# Altium schematic symbol library IOBoard_Low.SCHLIB: 201 symbols
Pins are listed as number, name and electrical type; pins without a type are passive.

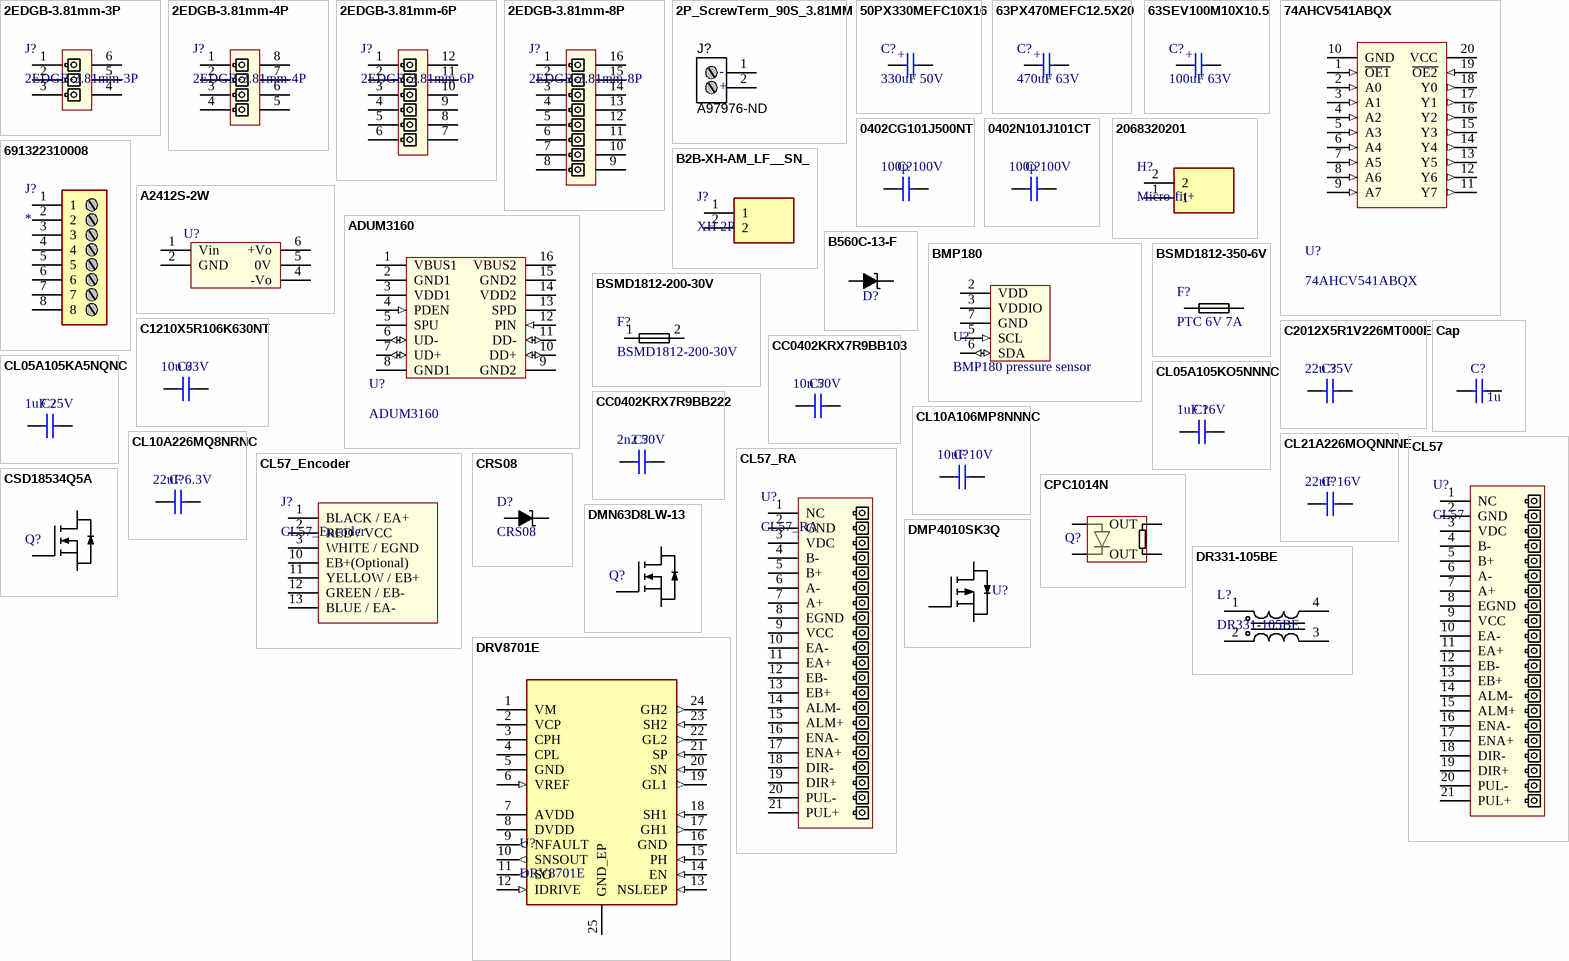
[diagram p0: symbols 2EDGB-3.81mm-3P to DRV8701E]

## 2EDGB-3.81mm-3P
designator J?
3.81mm inverted header, 3 position, Straight
footprint 2EDGB-3.81mm-3P
pins: 1, 2, 3, 4, 5, 6

## 2EDGB-3.81mm-4P
designator J?
3.81mm inverted header, 4 position, Straight
footprint 2EDGB-3.81mm-4P
pins: 1, 2, 3, 4, 5, 6, 7, 8

## 2EDGB-3.81mm-6P
designator J?
3.81mm inverted header, 6 position, Straight
footprint 2EDGB-3.81mm-6P
pins: 1, 2, 3, 4, 5, 6, 7, 8, 9, 10, 11, 12

## 2EDGB-3.81mm-8P
designator J?
3.81mm inverted header, 8 position, Straight
footprint 2EDGB-3.81mm-8P
pins: 1, 2, 3, 4, 5, 6, 7, 8, 9, 10, 11, 12, 13, 14, 15, 16

## 2P_ScrewTerm_90S_3.81MM
designator J?, comment Supplier Part Number 1: A97976-ND  (hidden comment: Stackable ScrewTerm)
Terminal Block Screw Type THT 2-Position 3.81mm pitch; Manufacturer 1: Tyco Electronics; Manufacturer Part Number 1: 1776113-2; Value: 2 position; Pitch: 0.150" (3.81mm); Positions Per Level: 2; SCDType: undef; Package / Case: Side Entry; 3.81mm pitch; Category: Connectors Interconnects; Color: Black; Supplier 1: Digi-Key
footprint 2P_PCB_ScrewTerm_90S_3.81MM (TERM BLOCK 2POS SIDE ENT STACKABLE 3.81MM)
footprint 2P_PCB_TERM (used in m2)
pins: 1, 2
text: -; +

## 50PX330MEFC10X16
designator C?, comment 330uF 50V
CAP ELEC 10x16 330uF 50V 2k@105C; Value: 330u; Price per 100 unit (LCSC): US$0.1075
footprint CAPE10.0MM_Rad_10x14mm (10mm Pitch Radial Capacitor 10x14mm DxH)
pins: 1, 2
text: +

## 63PX470MEFC12.5X20
designator C?, comment 470uF 63V
CAP ELEC 12.5x20 470uF 63V 2k@105C; Value: 470u; Price per 100 unit (LCSC): US$0.1075
footprint CAPPRD500W65D1250H2200 (CAPE 12.5 x 20mm)
pins: 1, 2
text: +

## 63SEV100M10X10.5
designator C?, comment 100uF 63V
CAP ELEC 10x10.5 100uF 63V 2k@105C; Value: 100u; Price per 100 unit (LCSC): US$0.1075
footprint CAP_ELEC_SIZE_G (Capacitor, polarized, aluminum can; 10.0x10.2mm DxH)
pins: 1, 2
text: +

## 74AHCV541ABQX
designator U?
Octal buffer/line driver; 3-state; Source: https://www.mouser.hk/ProductDetail/Nexperia/74AHCV244APWJ?qs=sGAEpiMZZMuiiWkaIwCK2bgmxBV%2FR64eEE4cbZSq%2Ff0=; ComponentLink1Description: purchase; ComponentLink1URL: https://www.mouser.hk/ProductDetail/Nexperia/74AHCV244APWJ?qs=sGAEpiMZZMuiiWkaIwCK2bgmxBV%2FR64eEE4cbZSq%2Ff0=
footprint TSSOP20_4.4mm
pins: 1 ~{OE1} (in), 2 A0 (in), 3 A1 (in), 4 A2 (in), 5 A3 (in), 6 A4 (in), 7 A5 (in), 8 A6 (in), 9 A7 (in), 10 GND (power), 11 Y7 (out), 12 Y6 (out), 13 Y5 (out), 14 Y4 (out), 15 Y3 (out), 16 Y2 (out), 17 Y1 (out), 18 Y0 (out), 19 ~{OE2} (in), 20 VCC (power)

## 0402CG101J500NT
designator C?, comment 100p 100V
CAP CER 0402 100pF 100V C0G 5%; Price per 100 unit (LCSC): US$0.0038; Value: 100p
simulation model CAP (Capacitor)
signal-integrity model Cap
footprint CAPC1005X55N (Chip Capacitor, Body 1.0x0.5mm, EIA 0402, IPC Medium Density)
pins: 1, 2

## 0402N101J101CT
designator C?, comment 100p 100V
CAP CER 0402 100pF 100V C0G 5%; Price per 100 unit (LCSC): US$0.0038; Value: 100p
simulation model CAP (Capacitor)
signal-integrity model Cap
footprint CAPC1005X55N (Chip Capacitor, Body 1.0x0.5mm, EIA 0402, IPC Medium Density)
pins: 1, 2

## 2068320201
designator H?, comment Micro-fit+
Molex micro fit+ 2 pin configuration
pins: 1, 2

## 691322310008
designator J?
Connector; Manufacturer_Name: Wurth Elektronik; Manufacturer_Part_Number: 691322310008; Datasheet Link: https://www.mouser.cn/datasheet/2/445/691322310008-1719709.pdf; Height: 7mm; Mouser Part Number: 710-691322310008; Mouser Price/Stock: https://www.mouser.co.uk/ProductDetail/Wurth-Elektronik/691322310008/?qs=2kOmHSv6VfQgPLFTK4orkA%3D%3D
footprint SHDRRA8W80P0X381_1X8_3167X920X700P
pins: 1, 2, 3, 4, 5, 6, 7, 8

## A2412S-2W
designator U?  (value not drawn)
+/- 12V output, max power 2W and 100uF for output. 1.5kV isolation. acoupling cap 20oF; ComponentLink1Description: taobao; ComponentLink1URL: https://detail.tmall.com/item.htm?spm=a230r.1.14.16.54a42126Tbq0Y1&id=606375734809&ns=1&abbucket=18&skuId=4246605892175
footprint A2412S-2W
pins: 1 Vin (power), 2 GND (power), 4 -Vo (power), 5 0V (power), 6 +Vo (power)

## ADUM3160
designator U?
2.5kV USB isolator
footprint SOIC_W_16
pins: 1 VBUS1 (power), 2 GND1 (power), 3 VDD1 (power), 4 PDEN (in), 5 SPU, 6 UD- (io), 7 UD+  (io), 8 GND1 (power), 9 GND2 (power), 10 DD+ (io), 11 DD- (io), 12 PIN (in), 13 SPD (power), 14 VDD2 (power), 15 GND2 (power), 16 VBUS2 (power)

## B2B-XH-AM_LF__SN_
designator J?, comment XH 2P
JST XH 2-pin; Manufacturer_Name: JST (JAPAN SOLDERLESS TERMINALS); Manufacturer_Part_Number: B2B-XH-AM(LF)(SN); Datasheet Link: https://www.jst-mfg.com/product/pdf/eng/eXH.pdf; Height: 7mm; Arrow Part Number: B2B-XH-AM(LF)(SN); Arrow Price/Stock: https://www.arrow.com/en/products/b2b-xh-am-lf-sn/jst-manufacturing?region=europe
footprint B2BXHAMLFSN
pins: 1, 2

## B560C-13-F
designator D?  (value not drawn)
5.0A SURFACE MOUNT SCHOTTKY BARRIER RECTIFIER; Manufacturer: Diodes incoporated; Vrrm: 60V; If: 5A(MAX); Vf: 0.7V
footprint DO-214AB (JEDEC DO214 variation AB. SMC)
pins: A Anode, K Cathode

## BMP180
designator U?, comment BMP180 pressure sensor
VDD: 1.8-3.6V; VDDIO: 1.65-3.6V
footprint BMP180
pins: 2 VDD (power), 3 VDDIO (power), 5 SCL (in), 6 SDA (io), 7 GND (power)

## BSMD1812-200-30V
designator F?
FUSE 1812 2A HOLD 4A TRIP 30V
footprint RESC5025X70N (Chip Resistor, Body 5.0x2.5mm, 2010, IPC Medium Density)
pins: 1, 2

## BSMD1812-350-6V
designator F?, comment PTC 6V 7A
FUSE 6V 7A 1812 PTC Resettable Fuses
footprint FUSE_1812 (SMD Fuse 4.5x3.2mm, 1812)
pins: 1, 2

## C1210X5R106K630NT
designator C?, comment 10u 63V
CAP CER 1210 10uF 63V X5R 20%; Price per 100 unit (LCSC): US$0.0662; Value: 10u
simulation model CAP (Capacitor)
signal-integrity model Cap
footprint CAPC3225X220N (Chip Capacitor, Body 3.2x2.5mm, EIA 1210, IPC Medium Density)
pins: 1, 2

## C2012X5R1V226MT000E
designator C?, comment 22u 35V
CAP CER 0805 22uF 35V X5R 20%; Price per 100 unit (LCSC): US$0.1732; Value: 22u
simulation model CAP (Capacitor)
signal-integrity model Cap
footprint CAPC2012X135N
pins: 1, 2

## Cap
designator C?  value 1u  (hidden comment: Cap)
Capacitor; Published: 8-Jun-2000; LatestRevisionDate: 17-Jul-2002; LatestRevisionNote: Re-released for DXP Platform.; PackageReference: RAD-0.3; Publisher: Altium Limited; PackageDescription: Radial Cap, Thru-Hole; 2 Leads; 0.3 in Pin Spacing
footprint RAD-0.3 (Radial Cap, Thru-Hole; 2 Leads; 0.3 in Pin Spacing)
simulation model CAP (Capacitor)
signal-integrity model Cap
footprint CAPC2012X135N (Chip Capacitor, Body 2.0x1.2mm, EIA 0805, IPC Medium Density)
footprint CAPC1608X90N (Chip Capacitor, Body 1.6x0.8mm, EIA 0603, IPC Medium Density)
pins: 1, 2

## CC0402KRX7R9BB103
designator C?, comment 10n 50V
CAP CER 0402 10nF 50V X7R 10%; Price per 100 unit (LCSC): US$0.0012; Value: 10n
simulation model CAP (Capacitor)
signal-integrity model Cap
footprint CAPC1005X55N (Chip Capacitor, Body 1.0x0.5mm, EIA 0402, IPC Medium Density)
pins: 1, 2

## CC0402KRX7R9BB222
designator C?, comment 2n2 50V
CAP CER 0402 2.2nF 50V X7R 10%; Price per 100 unit (LCSC): US$0.0012; Value: 2n2
simulation model CAP (Capacitor)
signal-integrity model Cap
footprint CAPC1005X55N (Chip Capacitor, Body 1.0x0.5mm, EIA 0402, IPC Medium Density)
pins: 1, 2

## CL05A105KA5NQNC
designator C?, comment 1uF 25V
CAP CER 0402 1uF 25V X5R 10%; Value: 1u; Price per 100 unit (LCSC): US$0.0108
simulation model CAP (Capacitor)
signal-integrity model Cap
footprint CAPC1005X55N (Chip Capacitor, Body 1.0x0.5mm, EIA 0402, IPC Medium Density)
pins: 1, 2

## CL05A105KO5NNNC
designator C?, comment 1uF 16V
CAP CER 0402 1uF 16V X5R 10%; Value: 1u; Price per 100 unit (LCSC): US$0.0108
simulation model CAP (Capacitor)
signal-integrity model Cap
footprint CAPC1005X55N (Chip Capacitor, Body 1.0x0.5mm, EIA 0402, IPC Medium Density)
pins: 1, 2

## CL10A106MP8NNNC
designator C?, comment 10uF 10V
CAP CER 0603 10uF 10V X5R 20%; Value: 10u; Price per 100 unit (LCSC): US$0.0108
simulation model CAP (Capacitor)
signal-integrity model Cap
footprint CAPC1608X90N (Chip Capacitor, Body 1.6x0.8mm, EIA 0603, IPC Medium Density)
pins: 1, 2

## CL10A226MQ8NRNC
designator C?, comment 22uF 6.3V
CAP CER 0603 22uF 6.3V X5R 10%; Value: 22u; Price per 100 unit (LCSC): US$0.0108
simulation model CAP (Capacitor)
signal-integrity model Cap
footprint CAPC1608X90N (Chip Capacitor, Body 1.6x0.8mm, EIA 0603, IPC Medium Density)
pins: 1, 2

## CL21A226MOQNNNE
designator C?, comment 22uF 16V
CAP CER 0603 22uF 16V X5R 10%; Value: 22u; Price per 100 unit (LCSC): US$0.0108
simulation model CAP (Capacitor)
signal-integrity model Cap
footprint CAPC1608X90N (Chip Capacitor, Body 1.6x0.8mm, EIA 0603, IPC Medium Density)
pins: 1, 2

## CL57
designator U?
CL57 Stepper Module, 24-48V, 8A output
footprint CL57_Stepper
pins: 1 NC, 2 GND, 3 VDC, 4 B-, 5 B+, 6 A-, 7 A+, 8 EGND, 9 VCC, 10 EA-, 11 EA+, 12 EB-, 13 EB+, 14 ALM-, 15 ALM+, 16 ENA-, 17 ENA+, 18 DIR-, 19 DIR+, 20 PUL-, 21 PUL+

## CL57_Encoder
designator J?
Encoder header for CL57 steppers
footprint DE15 (DE15 connector)
pins: 1 BLACK / EA+, 2 RED / VCC, 3 WHITE / EGND, 10 EB+(Optional), 11 YELLOW / EB+, 12 GREEN / EB-, 13 BLUE / EA-

## CL57_RA
designator U?
CL57 Stepper Module, 24-48V, 8A output
footprint CL57_Stepper_RA
pins: 1 NC, 2 GND, 3 VDC, 4 B-, 5 B+, 6 A-, 7 A+, 8 EGND, 9 VCC, 10 EA-, 11 EA+, 12 EB-, 13 EB+, 14 ALM-, 15 ALM+, 16 ENA-, 17 ENA+, 18 DIR-, 19 DIR+, 20 PUL-, 21 PUL+

## CPC1014N
designator Q?, comment Solid state relay  (value not drawn)
ComponentLink1Description: Taobao; ComponentLink1URL: https://detail.tmall.com/item.htm?spm=a230r.1.14.1.5c106cc5WxdCik&id=611164965496&ns=1&abbucket=18; ComponentLink2Description: Mouser; ComponentLink2URL: https://hkcn.rs-online.com/web/p/solid-state-relays/9061013/
footprint SO4
pins: 1 + (power), 2 + (power), 3 OUT (power), 4 OUT (power)

## CRS08
designator D?
1.5A SURFACE MOUNT SCHOTTKY BARRIER RECTIFIER; Voltage: 40V; Current: 2A
footprint SOD123 (SOD-123; 2 Leads; Body 2.7 x 1.6 mm, (LxW))
pins: A Anode, K Cathode

## CSD18534Q5A
designator Q?, comment 60V N-Channel MOSFET  (value not drawn)
60V N-Channel NexFET Power MOSFET. 14A minimum depending on temperature
footprint SON_5x6_NexFET
pins: 1 G, 3 S, 4 D

## DMN63D8LW-13
designator Q?, comment Enhancing mode mosfet  (value not drawn)
Small N channel MOSFET as a level shifter.; Rds @ Vgs = 2.5V 250mA: 13R; Rds @ Vgs = 5V 250mA: 2.5R; Vds max: 30V; Vgs max: 20V; Id: 300mA
footprint SOT323 (Small outline 2.1mm L x 1.25mm W x 1.1mm H; 3 lead SC70, EIAJ SC-70, SOT323)
pins: 1 G, 2 S, 3 D

## DMP4010SK3Q
designator U?  (value not drawn)
P channel mosfet
footprint TO-252 (D-PAK/TO-252-AA; 3 Leads (1 Cropped); Body 10.3 (inc. leads) x 6.7 mm (LxW max))
pins: 1 G, 3 S, 4 D

## DR331-105BE
designator L?
Common mode choke 1mH 0.5A
footprint DR331-105BE (Footprint for common mode choke DR331-105BE)
pins: 1 VOUT+ (power), 2 VOUT+ (power), 3 VOUT+ (power), 4 VOUT+ (power)

## DRV8701E
designator U?
6V to 45V operating range, PH/EN control interface
footprint VQFN24 (VQFN package with 24 pins)
pins: 1 VM (power), 2 VCP (power), 3 CPH (power), 4 CPL (power), 5 GND (power), 6 VREF (in), 7 AVDD (power), 8 DVDD (power), 9 NFAULT (out), 10 SNSOUT (out), 11 SO (out), 12 IDRIVE (in), 13 NSLEEP (in), 14 EN (in), 15 PH (in), 16 GND (power), 17 GH1 (out), 18 SH1 (in), 19 GL1 (out), 20 SN (in), 21 SP (in), 22 GL2 (out), 23 SH2 (in), 24 GH2 (out), 25 GND_EP (power)

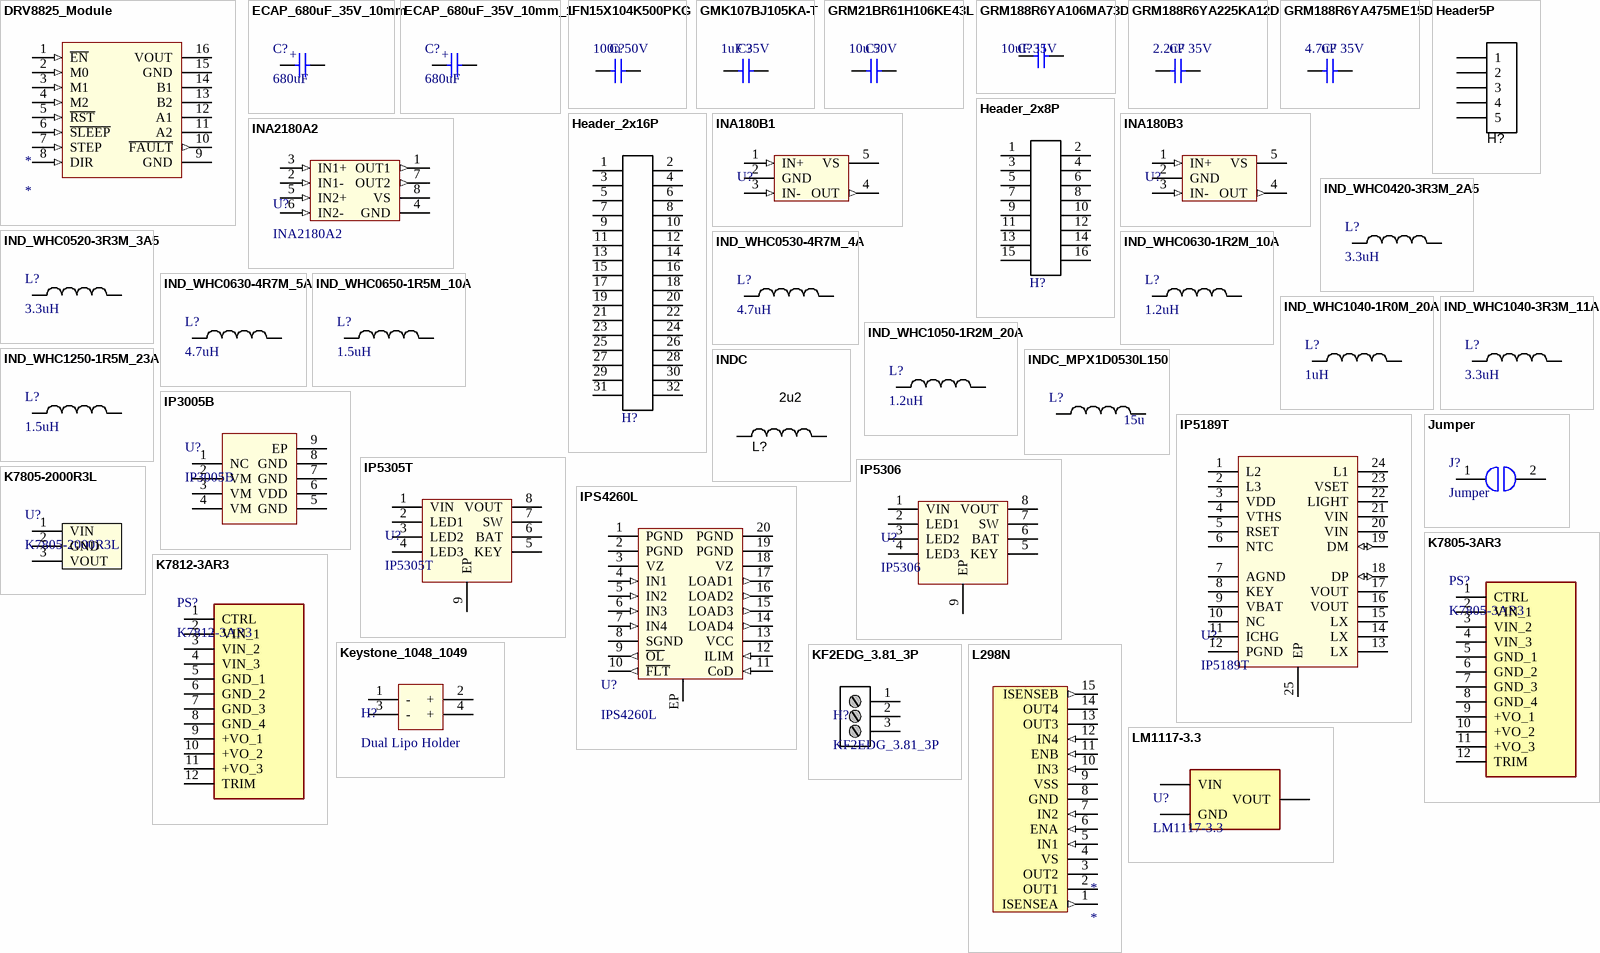
[diagram p1: symbols DRV8825_Module to LM1117-3.3]

## DRV8825_Module
designator *
footprint DRV8825_module
pins: 1 ~{EN} (in), 2 M0 (in), 3 M1 (in), 4 M2 (in), 5 ~{RST} (in), 6 ~{SLEEP} (in), 7 STEP (in), 8 DIR (in), 9 GND (power), 10 ~{FAULT} (out), 11 A2 (power), 12 A1 (power), 13 B2 (power), 14 B1 (power), 15 GND (power), 16 VOUT (power)

## ECAP_680uF_35V_10mm
designator C?, comment 680uF
electrolytic capacitor 680uF 35V, 10mm in diameter
footprint CAPE10.0MM_Rad_10x14mm (10mm Pitch Radial Capacitor 10x14mm DxH)
pins: 1, 2
text: +

## ECAP_680uF_35V_10mm_1
designator C?, comment 680uF
electrolytic capacitor 680uF 35V, 10mm in diameter
footprint CAPE10.0MM_Rad_10x14mm (10mm Pitch Radial Capacitor 10x14mm DxH)
pins: 1, 2
text: +

## FN15X104K500PKG
designator C?, comment 100n 50V
CAP CER 0402 100nF 50V X7R 10%; Price per 100 unit (LCSC): US$0.0032; Value: 100n
simulation model CAP (Capacitor)
signal-integrity model Cap
footprint CAPC1005X55N (Chip Capacitor, Body 1.0x0.5mm, EIA 0402, IPC Medium Density)
pins: 1, 2

## GMK107BJ105KA-T
designator C?, comment 1uF 35V
CAP CER 0603 1uF 35V X5R 10%; Value: 1u; Price per 100 unit (LCSC): US$0.0108
simulation model CAP (Capacitor)
signal-integrity model Cap
footprint CAPC1608X90N (Chip Capacitor, Body 1.6x0.8mm, EIA 0603, IPC Medium Density)
pins: 1, 2

## GRM21BR61H106KE43L
designator C?, comment 10u 50V
CAP CER 0805 10uF 50V X5R 10%; Price per 100 unit (LCSC): US$0.0892; Value: 10u
simulation model CAP (Capacitor)
signal-integrity model Cap
footprint CAPC2012X135N
pins: 1, 2

## GRM188R6YA106MA73D
designator C?, comment 10uF 35V
CAP CER 0603 10uF 35V X5R 20%; Value: 10u; Price per 100 unit (LCSC): US$0.0589
simulation model CAP (Capacitor)
signal-integrity model Cap
footprint CAPC1608X90N (Chip Capacitor, Body 1.6x0.8mm, EIA 0603, IPC Medium Density)
pins: 1, 2

## GRM188R6YA225KA12D
designator C?, comment 2.2uF 35V
CAP CER 0603 2.2uF 35V X5R 10%; Value: 2.2u; Price per 100 unit (LCSC): US$0.0295
simulation model CAP (Capacitor)
signal-integrity model Cap
footprint CAPC1608X90N (Chip Capacitor, Body 1.6x0.8mm, EIA 0603, IPC Medium Density)
pins: 1, 2

## GRM188R6YA475ME15D
designator C?, comment 4.7uF 35V
CAP CER 0603 4.7uF 35V X5R 20%; Value: 4.7u; Price per 100 unit (LCSC): US$0.0589
simulation model CAP (Capacitor)
signal-integrity model Cap
footprint CAPC1608X90N (Chip Capacitor, Body 1.6x0.8mm, EIA 0603, IPC Medium Density)
pins: 1, 2

## Header5P
designator H?, comment Programmer  (value not drawn)  (no BOM)
Header 5-pin
footprint HDR1X5_1.27MMP (Connector; Header; 5 Position, 0.050" pitch)
footprint HDR1X5_2.54MMP (Connector; Header; 5 Position 0.100" pitch)
footprint HDR1X5_1.27MMP_MIN (Programming connector target; 5 Position with minimally sized pads, 0.050" pitch)
footprint HDR1X5_2.54mmp (Connector; Header; 5 Position 0.100" pitch)
footprint HDR_1X5_2.54MM_RA (5 position right angled 2.54 pitch)
pins: 1, 2, 3, 4, 5

## Header_2x8P
designator H?, comment Header  (value not drawn)
Header, 2x8-pin
footprint 2x8P_HEADER_FLIP (2 x 8 pins header lol)
footprint 2x8P_HEADER (2 x 8 pins header lol)
pins: 1, 2, 3, 4, 5, 6, 7, 8, 9, 10, 11, 12, 13, 14, 15, 16

## Header_2x16P
designator H?, comment Header  (value not drawn)
Header, 2x16-Pin
footprint 2X16_HEADER_FLIP
footprint 2X16_HEADER
pins: 1, 2, 3, 4, 5, 6, 7, 8, 9, 10, 11, 12, 13, 14, 15, 16, 17, 18, 19, 20, 21, 22, 23, 24, 25, 26, 27, 28, 29, 30, 31, 32

## INA180B1
designator U?, comment current sensr  (value not drawn)
Single channel current amplifier with 20V/V gain
footprint SOT23-5
pins: 1 IN+ (in), 2 GND (power), 3 IN- (in), 4 OUT (out), 5 VS (power)

## INA180B3
designator U?, comment current sensr  (value not drawn)
Single channel current amplifier with 100V/V gain
footprint SOT23-5
pins: 1 IN+ (in), 2 GND (power), 3 IN- (in), 4 OUT (out), 5 VS (power)

## INA2180A2
designator U?
Dual channel current amplifier with 50V/V gain; VIN: 2.7-5.5V; ComponentLink1Description: purchase; ComponentLink1URL: https://www.mouser.com/ProductDetail/Texas-Instruments/INA2180A1IDGKR?qs=sGAEpiMZZMve4%2FbfQkoj%252BJeFFT10xS5SspuFDeMRQ2U%3D; Gain: 50V/V
footprint VSSOP8
pins: 1 OUT1 (out), 2 IN1- (in), 3 IN1+ (in), 4 GND (power), 5 IN2+ (in), 6 IN2- (in), 7 OUT2 (out), 8 VS (power)

## IND_WHC0420-3R3M_2A5
designator L?, comment 3.3uH
3.3uH inductor, rated DC current 2.5A, saturation current 4A
footprint WHC0420
pins: 1, 2

## IND_WHC0520-3R3M_3A5
designator L?, comment 3.3uH
3.3uH inductor, rated DC current 3.5A, saturation current 5A
footprint WHC0520
pins: 1, 2

## IND_WHC0530-4R7M_4A
designator L?, comment 4.7uH
4.7uH inductor, rated DC current 4A, saturation current 5.5A
footprint WHC0630
pins: 1, 2

## IND_WHC0630-1R2M_10A
designator L?, comment 1.2uH
1.2uH inductor, rated DC current 10A, saturation current 14A
footprint WHC0630
pins: 1, 2

## IND_WHC0630-4R7M_5A
designator L?, comment 4.7uH
4.7uH inductor, rated DC current 5A, saturation current 6.5A
footprint WHC0630
pins: 1, 2

## IND_WHC0650-1R5M_10A
designator L?, comment 1.5uH
1.5uH inductor, rated DC current 10A, saturation current 12A
footprint WHC0650
pins: 1, 2

## IND_WHC1040-1R0M_20A
designator L?, comment 1uH
1uH inductor, rated DC current 20A, saturation current 26A
footprint WHC1040
pins: 1, 2

## IND_WHC1040-3R3M_11A
designator L?, comment 3.3uH
3.3uH inductor, rated DC current 11A, saturation current 13A
footprint WHC1040
pins: 1, 2

## IND_WHC1050-1R2M_20A
designator L?, comment 1.2uH
1.2uH inductor, rated DC current 20A, saturation current 29A; ComponentLink1Description: Datasheet; ComponentLink1URL: http://file2.dzsc.com/product/17/08/24/718073_165838339.pdf
footprint WHC1050
pins: 1, 2

## IND_WHC1250-1R5M_23A
designator L?, comment 1.5uH
1.5uH inductor, rated DC current 23A, saturation current 30A; ComponentLink1Description: Datasheet; ComponentLink1URL: http://file2.dzsc.com/product/17/08/24/718073_165838339.pdf
footprint WHC1250 (inductor)
pins: 1, 2

## INDC
designator L?, comment value 2u2  (hidden comment: inductor)
IHLP SMD 4040; link: http://www.mouser.hk/ProductDetail/Panasonic/ETQ-P5M4R7YFC/?qs=sGAEpiMZZMsg%252by3WlYCkUx1BJssUTVH58rrEHsPkNus%3d
footprint INDM3225X240N (Molded Inductor, 2-Leads, Body 3.2x2.5mm, IPC Medium Density)
footprint IND_12.2x12.2x7.6 (12.2x12.2x7.6 shield smd package for inductor)
footprint IND_IHLP SMD 4040 (4040 package 10.7mmx10mm)
pins: 1, 2

## INDC_MPX1D0530L150
designator L?, comment value 15u  (hidden comment: 15uH inductor)
15uH inductor with 2A saturation current. Dimension is 5.5 * 5.2 * 3 mm^3; Saturation Current: 2A
footprint INDC_5.5x5.3x3
pins: 1, 2

## IP3005B
designator U?
1-cell Lipo protection IC
footprint ESOP8 (SOP8 with exposed pad)
pins: 1 NC, 2 VM (power), 3 VM (power), 4 VM (power), 5 GND (power), 6 VDD (power), 7 GND (power), 8 GND (power), 9 EP

## IP5189T
designator U?
1-cell Lipo charger for USB Power Bank
footprint QFN24
pins: 1 L2, 2 L3, 3 VDD (power), 4 VTHS, 5 RSET, 6 NTC, 7 AGND (power), 8 KEY, 9 VBAT (power), 10 NC, 11 ICHG, 12 PGND (power), 13 LX, 14 LX, 15 LX, 16 VOUT (power), 17 VOUT (power), 18 DP (io), 19 DM (io), 20 VIN (power), 21 VIN (power), 22 LIGHT, 23 VSET, 24 L1, 25 EP (power)

## IP5305T
designator U?
1-cell Lipo charger for USB Power Bank 1A charge and 1.2A discharge
footprint ESOP8 (SOP8 with exposed pad)
pins: 1 VIN, 2 LED1, 3 LED2, 4 LED3, 5 KEY, 6 BAT, 7 SW, 8 VOUT, 9 EP (power)

## IP5306
designator U?
1-cell Lipo charger for USB Power Bank 2A charge and discharge
footprint ESOP8 (SOP8 with exposed pad)
pins: 1 VIN, 2 LED1, 3 LED2, 4 LED3, 5 KEY, 6 BAT, 7 SW, 8 VOUT, 9 EP (power)

## IPS4260L
designator U?
IPS4260L Quad low side power switch; RDS(on)@25C: 260mR; Current per 1 ch: 0.5A; Vcc: 8-50V; RDS(on)@125C: 560mR; datasheet: https://www.mouser.hk/datasheet/2/389/ips4260l-1310053.pdf
footprint HTSSOP20
pins: 1 PGND (power), 2 PGND (power), 3 VZ (power), 4 IN1 (in), 5 IN2 (in), 6 IN3 (in), 7 IN4 (in), 8 SGND (power), 9 ~{OL} (out), 10 ~{FLT} (out), 11 CoD (in), 12 ILIM (in), 13 VCC (power), 14 LOAD4 (out), 15 LOAD3 (out), 16 LOAD2 (out), 17 LOAD1 (out), 18 VZ (power), 19 PGND (power), 20 PGND (power), EP (power) "connect to SGND"

## Jumper
designator J?
footprint Jumper (SMD pad jumper)
pins: 1, 2

## K7805-3AR3
designator PS?
Non-isolated 8V-36V input to 5V 3A output; Manufacturer_Name: Mornsun; Datasheet Link: https://www.mornsun-power.jp/html/pdf/K7805-3AR3.html; Height: 15.35mm; Manufacturer_Part_Number: K7805-3AR3
footprint K78053AR3
pins: 1 CTRL, 2 VIN_1, 3 VIN_2, 4 VIN_3, 5 GND_1, 6 GND_2, 7 GND_3, 8 GND_4, 9 +VO_1, 10 +VO_2, 11 +VO_3, 12 TRIM

## K7805-2000R3L
designator U?
Non-isolated 8V-36V input to 5V 2A output
footprint K7805-2000R3L (K7805 module from mousun, right angle mounting)
pins: 1 VIN (power), 2 GND (power), 3 VOUT (power)

## K7812-3AR3
designator PS?
Non-isolated 16V-36V input to 12V 3A output; Manufacturer_Name: Mornsun; Manufacturer_Part_Number: K7805-3AR3; Datasheet Link: https://www.mornsun-power.jp/html/pdf/K7805-3AR3.html; Height: 15.35mm
footprint K78123AR3
pins: 1 CTRL, 2 VIN_1, 3 VIN_2, 4 VIN_3, 5 GND_1, 6 GND_2, 7 GND_3, 8 GND_4, 9 +VO_1, 10 +VO_2, 11 +VO_3, 12 TRIM

## Keystone_1048_1049
designator H?, comment Dual Lipo Holder
Dual 18650 Lipo battery holder, suitable for both 1048 and 1049 from keystone
footprint Keystone_1049 (Dual 18650 Lipo battery holder)
pins: 1 -, 2 +, 3 -, 4 +

## KF2EDG_3.81_3P
designator H?
KF2EDG_3.81_3P screw terminal connect, must be mount at the edge of the PCB; ComponentLink1Description: taobao; ComponentLink1URL: https://detail.tmall.com/item.htm?spm=a1z10.5-b.w4011-22304010834.196.65e57086SqLu38&id=520842321119&rn=ac0e41234ca0e3d4dbc59e112a9611af&abbucket=18&skuId=3103936693268; ComponentLink2Description: taobao_w; ComponentLink2URL: https://detail.tmall.com/item.htm?spm=a1z10.5-b.w4011-22304010834.146.241269d7ykRnYE&id=597781773200&rn=4d925850b338a5756f4419dac97d6ea2&abbucket=18&skuId=4164186937753
footprint KF2EDG_3.81_RA_3P (KF2EDG 3.81mm screw connector, RA, 3 position)
pins: 1, 2 (power), 3

## L298N
designator *
footprint Multiwatt15
pins: 1 ISENSEA (out), 2 OUT1 (power), 3 OUT2 (power), 4 VS (power), 5 IN1 (in), 6 ENA (in), 7 IN2 (in), 8 GND (power), 9 VSS (power), 10 IN3 (in), 11 ENB (in), 12 IN4 (in), 13 OUT3 (power), 14 OUT4 (power), 15 ISENSEB (out)

## LM1117-3.3
designator U?
1117 LDO with fixed 3.3V output, 800mA current
footprint SOT223 (SOT223 /SC-73)
footprint SOT223 (SOT223 /SC-73)
pins: 1 GND, 2 VOUT, 3 VIN, 4 VOUT

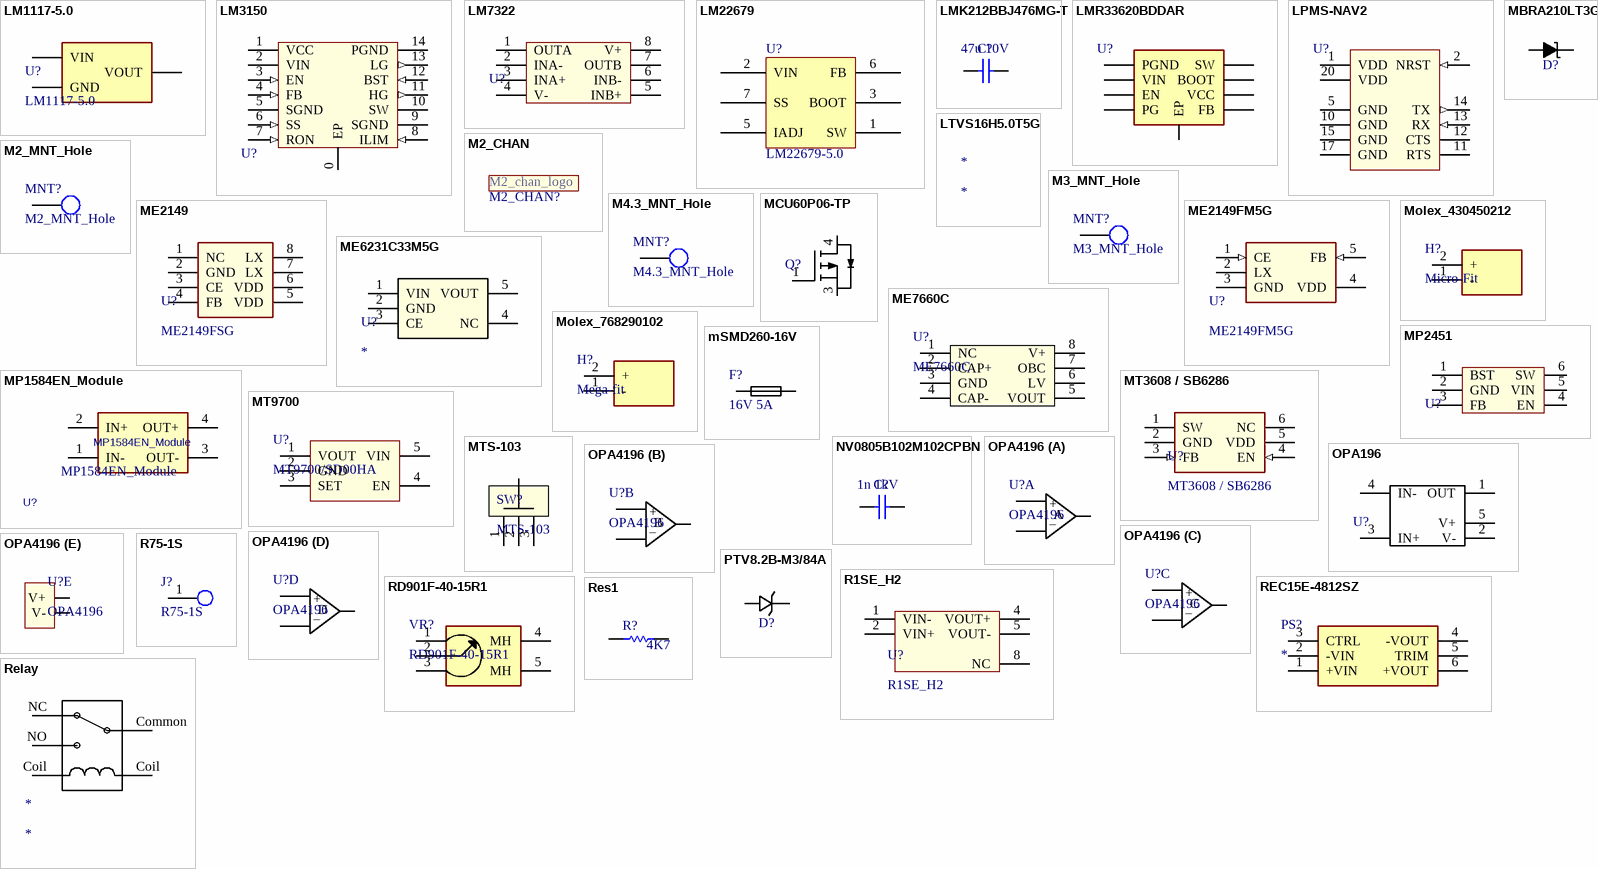
[diagram p2: symbols LM1117-5.0 to Res1]

## LM1117-5.0
designator U?
1117 LDO with fixed 5V output, 800mA current
footprint SOT223 (SOT223 /SC-73)
footprint SOT223 (SOT223 /SC-73)
pins: 1 GND, 2 VOUT, 3 VIN, 4 VOUT

## LM3150
designator U?, comment LM3150 buck converter  (value not drawn)
VIN_MIN: 6V; VIN_MAX: 42V; Parameter 1: *
footprint HTSSOP14
pins: 0 EP (power), 1 VCC (power), 2 VIN (power), 3 EN (in), 4 FB (in), 5 SGND (power), 6 SS (in), 7 RON (in), 8 ILIM (in), 9 SGND (power), 10 SW (power), 11 HG (out), 12 BST (in), 13 LG (out), 14 PGND (power)

## LM7322
designator U?, comment 2-ch opamp  (value not drawn)
2 channel opamp. BW:
footprint VSSOP8
pins: 1 OUTA (power), 2 INA-, 3 INA+, 4 V- (power), 5 INB+, 6 INB-, 7 OUTB (power), 8 V+ (power)

## LM22679
designator U?, comment LM22679-5.0
42-V, 5-A SIMPLE SWITCHER® Step-Down Voltage Regulator; Manufacturer: TI; Vin: 4.5-42V; Iout(Max): 5A cont.
footprint TO-263-7
pins: 1 SW, 2 VIN, 3 BOOT, 4 GND hidden to GND, 5 IADJ, 6 FB, 7 SS

## LMK212BBJ476MG-T
designator C?, comment 47u 10V
CAP CER 0805 47uF 10V X5R 20%; Price per 100 unit (LCSC): US$0.0892; Value: 47u
simulation model CAP (Capacitor)
signal-integrity model Cap
footprint CAPC2012X135N
pins: 1, 2

## LMR33620BDDAR
designator U?  (value not drawn)
3.8V to 36V input 2A sychronous step down voltage converter. 1.4MHz switching
footprint HSOIC8 (SOIC 8 with EP)
pins: 1 PGND (power), 2 VIN (power), 3 EN, 4 PG, 5 FB, 6 VCC (power), 7 BOOT, 8 SW, EP

## LPMS-NAV2
designator U?  (value not drawn)
ComponentLink1Description: datasheet; ComponentLink1URL: https://www.lp-research.com/wp-content/uploads/2017/11/LPMS-NAV2Manual20171025.pdf; ComponentLink2Description: official website; ComponentLink2URL: https://lp-research.com/lpms-nav2/
footprint LPMS-NAV2
pins: 1 VDD (power), 2 NRST (in), 5 GND (power), 10 GND (power), 11 RTS, 12 CTS, 13 RX (in), 14 TX (out), 15 GND (power), 17 GND (power), 20 VDD (power)

## LTVS16H5.0T5G
designator *

## M2_CHAN
designator M2_CHAN?  (value not drawn)
footprint M2_chan_thin (thinner line)
footprint M2_chan_thick (m2 liang)
text: M2_chan_logo

## M2_MNT_Hole
designator MNT?
footprint M2_MNT_HOLE (M2 Mounting hole)
pins: 1 (power)

## M3_MNT_Hole
designator MNT?
footprint M3_MNT_Hole
footprint M3_MNT_Hole_Copper (M3_MNT_Hole)
pins: 1 (power)

## M4.3_MNT_Hole
designator MNT?
footprint M4.3_MNT_Hole_Copper (M3_MNT_Hole)
pins: 1 (power)

## MBRA210LT3G
designator D?  (value not drawn)
Surface Mount  Schottky Power Rectifier; Manufacturer: ON semiconductor; Vf: 350mV; If: 2A; Vrrm: 10V; datasheet: http://www.mouser.com/ds/2/308/MBRA210LT3-D-76406.pdf
footprint SMA (for diode)
pins: A Anode, K Cathode

## MCU60P06-TP
designator Q?  (value not drawn)
P-channel mosfet 60Vds Id: 60A, Vgs +/-20V
footprint TO-252 (D-PAK/TO-252-AA; 3 Leads (1 Cropped); Body 10.3 (inc. leads) x 6.7 mm (LxW max))
pins: 1 G, 3 S, 4 D

## ME2149
designator U?, comment ME2149FSG
Boost converter
footprint SOP8
pins: 1 NC, 2 GND (power), 3 CE, 4 FB, 5 VDD (power), 6 VDD (power), 7 LX (power), 8 LX (power)

## ME2149FM5G
designator U?
Boost converter with SOT23-5 package
footprint SOT23-5
pins: 1 CE (in), 2 LX (power), 3 GND (power), 4 VDD (power), 5 FB (in)

## ME6231C33M5G
designator U?
LDO 3.3V output 500mA
footprint SOT23-5
pins: 1 VIN (power), 2 GND (power), 3 CE (power), 4 NC (power), 5 VOUT (power)

## ME7660C
designator U?
Charge Pump DC-DC Voltage Converter; ComponentLink1Description: purchase; ComponentLink1URL: https://lcsc.com/product-detail/DC-DC-Converters_MICRONE-Nanjing-Micro-One-Elec-ME7660CS1G_C88402.html
footprint SOP8
pins: 1 NC, 2 CAP+, 3 GND, 4 CAP-, 5 VOUT, 6 LV, 7 OBC, 8 V+

## Molex_430450212
designator H?, comment Micro-Fit
Micro fit series from MOLEX. 2P. 8.6A
footprint 430450212 (molex micro fit connector)
pins: 1 -, 2 +

## Molex_768290102
designator H?, comment Mega-fit
Molex mega fit 2P
footprint 768290102 (Molex mega fit)
pins: 1 -, 2 +

## MP1584EN_Module
designator U?
Footprint: M2_Footprints:MP1584EN_BOARD-SMD; Value: MP1584EN_Module
footprint MP1584EN_BOARD-SMD
pins: 1 IN- (power), 2 IN+ (power), 3 OUT- (power), 4 OUT+ (power)

## MP2451
designator U?, comment MP2451 Buck Converter  (value not drawn)
MP2541 Buck Converter; VIN_MAX: 36V; VIN_MIN: 3.3V; VOUT_MAX: 0.8*VIN; Current: 0.6A
footprint SOT23-6
pins: 1 BST (power), 2 GND (power), 3 FB (power), 4 EN (power), 5 VIN (power), 6 SW (power)

## mSMD260-16V
designator F?, comment 16V 5A
FUSE 16V 5A 1812 PTC Resettable Fuses
footprint FUSE_1812 (SMD Fuse 4.5x3.2mm, 1812)
pins: 1, 2

## MT3608 / SB6286
designator U?
Boost conveter, 2-24V input voltage, 28V max outpuut voltage, 2A output
footprint SOT23-6
pins: 1 SW (power), 2 GND (power), 3 FB (in), 4 EN (in), 5 VDD (power), 6 NC

## MT9700
designator U?, comment MT9700/SD00HA
MT9700, 2.5-5.5V High Side power switch maximum 2A current limit, interchangeable as SD00HA from Shoulding
footprint SOT23-5
pins: 1 VOUT (power), 2 GND (power), 3 SET, 4 EN, 5 VIN (power)

## MTS-103
designator SW?
3-way switch
footprint MTS-103 (MTS-103 3-way switch)
pins: 1, 2, 3

## NV0805B102M102CPBN
designator C?, comment 1n 1kV
CAP CER 0805 1nF 1kV C0G 5%; Price per 100 unit (LCSC): US$0.0047; Value: 1n
simulation model CAP (Capacitor)
signal-integrity model Cap
footprint CAPC2012X135N (Chip Capacitor, Body 2.0x1.2mm, EIA 0805, IPC Medium Density)
pins: 1, 2

## OPA196
designator U?  (value not drawn)
operational amplifier 36V input; Vs: -16 to +16 / 0 to 36V; Offset voltage: 100uV; Iout: -65 to 65mA; ComponentLink1Description: datasheet; ComponentLink1URL: https://www.ti.com/lit/ds/symlink/opa196.pdf?HQS=TI-null-null-mousermode-df-pf-null-wwe&DCM=yes&ref_url=https%3A%2F%2Fwww.mouser.hk%2F&distId=26
footprint SOT23-5
pins: 1 OUT (power), 2 V- (power), 3 IN+, 4 IN-, 5 V+ (power)

## OPA4196
designator U?
operational amplifier 36V input
footprint SOIC127P600X175-14AN (SOIC, 1.27mm pitch, 14 pin, Body 8.65x3.90mm)
part A pins: 1 OUT_A, 2 INA-, 3 INA+
part B pins: 5 INB+, 6 INB-, 7 OUT_B
part C pins: 8 OUT_C, 9 INC-, 10 INC+
part D pins: 12 IND+, 13 IND-, 14 OUT_D
part E pins: 4 V+ (power), 11 V- (power)
part A text: +; A; _
part B text: +; B; _
part C text: +; C; _
part D text: +; D; _

## PTV8.2B-M3/84A
designator D?  (value not drawn)
zener diode, Surface Mount Power Voltage-Regulating Diodes; Manufacturer: Vishay; Vz: 8.2V-9.3V; Pd: 1.5W; datasheet: http://www.mouser.com/ds/2/427/ptvxxb-100167.pdf
footprint DO-220AA
pins: A, K

## R1SE_H2
designator U?
R1SE_H2, isolated DC/DC converter 5V to 5V 1W
footprint R1SE_H2
pins: 1 VIN- (power), 2 VIN+ (power), 4 VOUT+ (power), 5 VOUT- (power), 8 NC (power)

## R75-1S
designator J?
R75-1S, pogo pin housing soldering point
footprint R75-1S (R75-1S pogo pin housing)
pins: 1

## RD901F-40-15R1
designator VR?
Potentiometer
footprint RD901F-40-15R1 (Potentiometer)
pins: 1, 2, 3, 4 MH, 5 MH

## REC15E-4812SZ
designator PS?
18 to 75V input to 12V @ 15W isolated power supply, pin to pin compatible with URB4812YMD-15WR3; Manufacturer_Name: RECOM Power; Manufacturer_Part_Number: REC15E-4812SZ; Datasheet Link: https://componentsearchengine.com/Datasheets/1/REC15E-4812SZ.pdf; Height: 10.5mm; Mouser Part Number: 919-REC15E-4812SZ; Mouser Price/Stock: https://www.mouser.co.uk/ProductDetail/RECOM-Power/REC15E-4812SZ?qs=lc2O%252BfHJPVauqRUd5dLSWA%3D%3D; Arrow Part Number: REC15E-4812SZ; Arrow Price/Stock: https://www.arrow.com/en/products/rec15e-4812sz/recom-power
footprint REC15E4812SZ
pins: 1 +VIN, 2 -VIN, 3 CTRL, 4 -VOUT, 5 TRIM, 6 +VOUT

## Relay
designator *
pins: Coil NO (power), Coil NO (power), Common (power), NC (power), NO (power)

## Res1
designator R?  value 4K7  (hidden comment: Res1)
Resistor; Published: 8-Jun-2000; LatestRevisionDate: 17-Jul-2002; LatestRevisionNote: Re-released for DXP Platform.; PackageReference: AXIAL-0.3; Publisher: Altium Limited; PackageDescription: Axial Device, Thru-Hole; 2 Leads; 0.3 in Pin Spacing
footprint AXIAL-0.3 (Axial Device, Thru-Hole; 2 Leads; 0.3 in Pin Spacing)
simulation model RESISTOR (Resistor)
signal-integrity model Res
footprint RESC2012X70N (Chip Resistor, Body 2.0x1.2mm, EIA 0805, IPC Medium Density)
footprint RESC1608X55N (Chip Resistor, Body 1.6x0.8mm, EIA 0603, IPC Medium Density)
footprint RESC3216X70N (Chip Resistor, Body 3.2x1.6mm, EIA 1206, IPC Medium Density)
pins: 1, 2

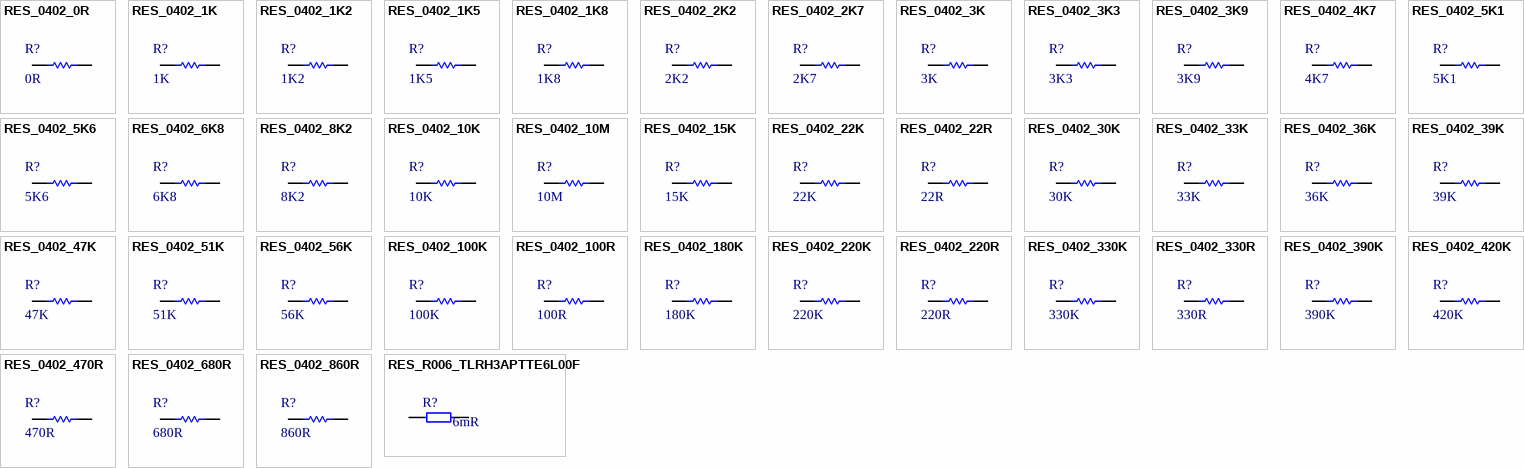
[diagram p3: symbols RES_0402_0R to RES_R006_TLRH3APTTE6L00F]

## RES_0402_0R
designator R?, comment 0R
RES 0402 0R 5%; Value: 0
footprint RESC1005N_ZERO (Chip Resistor, Body 1.0x0.5mm, EIA 0402, IPC Medium Density)
pins: 1, 2

## RES_0402_1K
designator R?, comment 1K
RES 0402 1K 5%; Value: 1K
footprint RESC1005N_ZERO (Chip Resistor, Body 1.0x0.5mm, EIA 0402, IPC Medium Density)
pins: 1, 2

## RES_0402_1K2
designator R?, comment 1K2
RES 0402 1K2 5%; Value: 1K2
footprint RESC1005N_ZERO (Chip Resistor, Body 1.0x0.5mm, EIA 0402, IPC Medium Density)
pins: 1, 2

## RES_0402_1K5
designator R?, comment 1K5
RES 0402 1K5 5%; Value: 1K5
footprint RESC1005N_ZERO (Chip Resistor, Body 1.0x0.5mm, EIA 0402, IPC Medium Density)
pins: 1, 2

## RES_0402_1K8
designator R?, comment 1K8
RES 0402 1K8 5%; Value: 1K8
footprint RESC1005N_ZERO (Chip Resistor, Body 1.0x0.5mm, EIA 0402, IPC Medium Density)
pins: 1, 2

## RES_0402_2K2
designator R?, comment 2K2
RES 0402 2K2 5%; Value: 2K2
footprint RESC1005N_ZERO (Chip Resistor, Body 1.0x0.5mm, EIA 0402, IPC Medium Density)
pins: 1, 2

## RES_0402_2K7
designator R?, comment 2K7
RES 0402 2K7 5%; Value: 2K7
footprint RESC1005N_ZERO (Chip Resistor, Body 1.0x0.5mm, EIA 0402, IPC Medium Density)
pins: 1, 2

## RES_0402_3K
designator R?, comment 3K
RES 0402 3K 5%; Value: 3K
footprint RESC1005N_ZERO (Chip Resistor, Body 1.0x0.5mm, EIA 0402, IPC Medium Density)
pins: 1, 2

## RES_0402_3K3
designator R?, comment 3K3
RES 0402 3K3 5%; Value: 3K3
footprint RESC1005N_ZERO (Chip Resistor, Body 1.0x0.5mm, EIA 0402, IPC Medium Density)
pins: 1, 2

## RES_0402_3K9
designator R?, comment 3K9
RES 0402 3K9 5%; Value: 3K9
footprint RESC1005N_ZERO (Chip Resistor, Body 1.0x0.5mm, EIA 0402, IPC Medium Density)
pins: 1, 2

## RES_0402_4K7
designator R?, comment 4K7
RES 0402 4K7 5%; Value: 4K7
footprint RESC1005N_ZERO (Chip Resistor, Body 1.0x0.5mm, EIA 0402, IPC Medium Density)
pins: 1, 2

## RES_0402_5K1
designator R?, comment 5K1
RES 0402 5K1 5%; Value: 5K1
footprint RESC1005N_ZERO (Chip Resistor, Body 1.0x0.5mm, EIA 0402, IPC Medium Density)
pins: 1, 2

## RES_0402_5K6
designator R?, comment 5K6
RES 0402 5K6 5%; Value: 5K6
footprint RESC1005N_ZERO (Chip Resistor, Body 1.0x0.5mm, EIA 0402, IPC Medium Density)
pins: 1, 2

## RES_0402_6K8
designator R?, comment 6K8
RES 0402 6K8 5%
footprint RESC1005N_ZERO (Chip Resistor, Body 1.0x0.5mm, EIA 0402, IPC Medium Density)
pins: 1, 2

## RES_0402_8K2
designator R?, comment 8K2
RES 0402 8K2 5%
footprint RESC1005N_ZERO (Chip Resistor, Body 1.0x0.5mm, EIA 0402, IPC Medium Density)
pins: 1, 2

## RES_0402_10K
designator R?, comment 10K
RES 0402 10K 5%
footprint RESC1005N_ZERO (Chip Resistor, Body 1.0x0.5mm, EIA 0402, IPC Medium Density)
pins: 1, 2

## RES_0402_10M
designator R?, comment 10M
RES 0402 10M 5%; Value: 10M
footprint RESC1005N_ZERO (Chip Resistor, Body 1.0x0.5mm, EIA 0402, IPC Medium Density)
pins: 1, 2

## RES_0402_15K
designator R?, comment 15K
RES 0402 15K 5%
footprint RESC1005N_ZERO (Chip Resistor, Body 1.0x0.5mm, EIA 0402, IPC Medium Density)
pins: 1, 2

## RES_0402_22K
designator R?, comment 22K
RES 0402 22K 5%
footprint RESC1005N_ZERO (Chip Resistor, Body 1.0x0.5mm, EIA 0402, IPC Medium Density)
pins: 1, 2

## RES_0402_22R
designator R?, comment 22R
RES 0402 22R 5%
footprint RESC1005N_ZERO (Chip Resistor, Body 1.0x0.5mm, EIA 0402, IPC Medium Density)
pins: 1, 2

## RES_0402_30K
designator R?, comment 30K
RES 0402 30K 5%; Value: 30K
footprint RESC1005N_ZERO (Chip Resistor, Body 1.0x0.5mm, EIA 0402, IPC Medium Density)
pins: 1, 2

## RES_0402_33K
designator R?, comment 33K
RES 0402 33K 5%; Value: 33K
footprint RESC1005N_ZERO (Chip Resistor, Body 1.0x0.5mm, EIA 0402, IPC Medium Density)
pins: 1, 2

## RES_0402_36K
designator R?, comment 36K
RES 0402 36K 5%; Value: 36K
footprint RESC1005N_ZERO (Chip Resistor, Body 1.0x0.5mm, EIA 0402, IPC Medium Density)
pins: 1, 2

## RES_0402_39K
designator R?, comment 39K
RES 0402 39K 5%; Value: 39K
footprint RESC1005N_ZERO (Chip Resistor, Body 1.0x0.5mm, EIA 0402, IPC Medium Density)
pins: 1, 2

## RES_0402_47K
designator R?, comment 47K
RES 0402 47K 5%; Value: 47K
footprint RESC1005N_ZERO (Chip Resistor, Body 1.0x0.5mm, EIA 0402, IPC Medium Density)
pins: 1, 2

## RES_0402_51K
designator R?, comment 51K
RES 0402 51K 5%; Value: 51K
footprint RESC1005N_ZERO (Chip Resistor, Body 1.0x0.5mm, EIA 0402, IPC Medium Density)
pins: 1, 2

## RES_0402_56K
designator R?, comment 56K
RES 0402 56K 5%
footprint RESC1005N_ZERO (Chip Resistor, Body 1.0x0.5mm, EIA 0402, IPC Medium Density)
pins: 1, 2

## RES_0402_100K
designator R?, comment 100K
RES 0402 100K 5%
footprint RESC1005N_ZERO (Chip Resistor, Body 1.0x0.5mm, EIA 0402, IPC Medium Density)
pins: 1, 2

## RES_0402_100R
designator R?, comment 100R
RES 0402 100R 5%
footprint RESC1005N_ZERO (Chip Resistor, Body 1.0x0.5mm, EIA 0402, IPC Medium Density)
pins: 1, 2

## RES_0402_180K
designator R?, comment 180K
RES 0402 180K 5%
footprint RESC1005N_ZERO (Chip Resistor, Body 1.0x0.5mm, EIA 0402, IPC Medium Density)
pins: 1, 2

## RES_0402_220K
designator R?, comment 220K
RES 0402 220K 5%
footprint RESC1005N_ZERO (Chip Resistor, Body 1.0x0.5mm, EIA 0402, IPC Medium Density)
pins: 1, 2

## RES_0402_220R
designator R?, comment 220R
RES 0402 220R 5%
footprint RESC1005N_ZERO (Chip Resistor, Body 1.0x0.5mm, EIA 0402, IPC Medium Density)
pins: 1, 2

## RES_0402_330K
designator R?, comment 330K
RES 0402 330K 5%
footprint RESC1005N_ZERO (Chip Resistor, Body 1.0x0.5mm, EIA 0402, IPC Medium Density)
pins: 1, 2

## RES_0402_330R
designator R?, comment 330R
RES 0402 330R 5%
footprint RESC1005N_ZERO (Chip Resistor, Body 1.0x0.5mm, EIA 0402, IPC Medium Density)
pins: 1, 2

## RES_0402_390K
designator R?, comment 390K
RES 0402 390K 5%
footprint RESC1005N_ZERO (Chip Resistor, Body 1.0x0.5mm, EIA 0402, IPC Medium Density)
pins: 1, 2

## RES_0402_420K
designator R?, comment 420K
RES 0402 420K 5%
footprint RESC1005N_ZERO (Chip Resistor, Body 1.0x0.5mm, EIA 0402, IPC Medium Density)
pins: 1, 2

## RES_0402_470R
designator R?, comment 470R
RES 0402 470R 5%
footprint RESC1005N_ZERO (Chip Resistor, Body 1.0x0.5mm, EIA 0402, IPC Medium Density)
pins: 1, 2

## RES_0402_680R
designator R?, comment 680R
RES 0402 680R 5%
footprint RESC1005N_ZERO (Chip Resistor, Body 1.0x0.5mm, EIA 0402, IPC Medium Density)
pins: 1, 2

## RES_0402_860R
designator R?, comment 860R
RES 0402 860R 5%
footprint RESC1005N_ZERO (Chip Resistor, Body 1.0x0.5mm, EIA 0402, IPC Medium Density)
pins: 1, 2

## RES_R006_TLRH3APTTE6L00F
designator R?, comment value 6mR  (hidden comment: Current sensing resistor)
Current sensing resistor, 6mR, 5W, 1% tolerance; ComponentLink1Description: Datasheet; ComponentLink1URL: https://www.mouser.hk/datasheet/2/219/TLRH-2321.pdf; ComponentLink2Description: Purchase; ComponentLink2URL: https://www.mouser.hk/ProductDetail/KOA-Speer/TLRH3APTTE6L00F/?qs=sGAEpiMZZMvdGkrng054t4oHXVSJdUXTKmZ3BTTNDO%2FInTO4f95VUg%3D%3D
footprint RESC6332X70N (Chip Resistor, Body 6.3x3.2mm, 2512, IPC Medium Density)
pins: 1 (power), 2 (power)

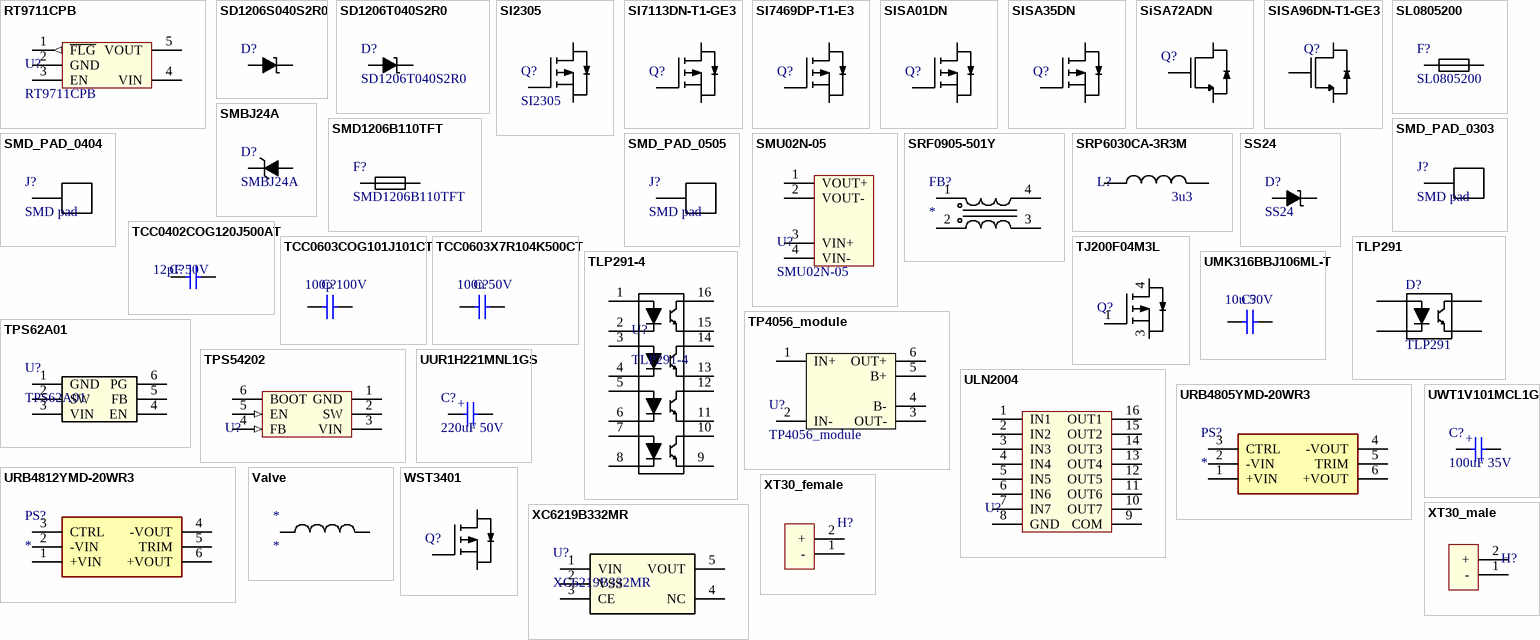
[diagram p4: symbols RT9711CPB to XT30_male]

## RT9711CPB
designator U?
80mΩ, 0.6A High-Side Power Switches with Flag
footprint SOT23-5
pins: 1 ~{FLG} (out), 2 GND (power), 3 EN, 4 VIN (power), 5 VOUT (power)

## SD1206S040S2R0
designator D?  (value not drawn)
40V 2A diode; ComponentLink1Description: mouser; ComponentLink1URL: https://www.mouser.hk/ProductDetail/AVX/SD1206S040S2R0?qs=jCA%252BPfw4LHbfEJl0sZ31oA%3D%3D
footprint DIODE_3216_70N
pins: A Anode, K Cathode

## SD1206T040S2R0
designator D?
40V 2A Diode; Manufacturer_Name: AVX; Datasheet Link: https://componentsearchengine.com/Datasheets/1/SD1206T040S2R0.pdf; Height: 1.16mm; Manufacturer_Part_Number: SD1206T040S2R0; Mouser Part Number: 581-SD1206T040S2R0; Mouser Price/Stock: https://www.mouser.co.uk/ProductDetail/AVX/SD1206T040S2R0?qs=jCA%252BPfw4LHbhsgslBEnGbA%3D%3D; Arrow Part Number: SD1206T040S2R0; Arrow Price/Stock: https://www.arrow.com/en/products/sd1206t040s2r0/avx
footprint DIOC3416X116N
pins: 1 Cathode, 2 Anode

## SI2305
designator Q?
P-channel mosfet 12-Vds ID: 4.1A, Rds(on) = 40mR @ 2.5V Vgs; ComponentLink1Description: purchase link; ComponentLink1URL: https://www.mouser.hk/ProductDetail/Vishay-Semiconductors/SISA01DN-T1-GE3?qs=chTDxNqvsymq6IcOj9ze4g==; ComponentLink2Description: datasheet; ComponentLink2URL: https://www.mouser.hk/datasheet/2/427/sisa01dn-1766634.pdf
footprint SOT23-3 (SOT23, 3 pin)
pins: 1 G, 2 S, 3 D

## SI7113DN-T1-GE3
designator Q?, comment SI7113DN  (value not drawn)
P-channel mosfet 100Vds Id: 13.2A, Vgs +/-20V
footprint PowerPAK 1212-8
pins: 1 S, 2 G, 3 D

## SI7469DP-T1-E3
designator Q?  (value not drawn)
P-channel mosfet 80Vds Id: 28A, Vgs +/-20V
footprint POWERPAKSO-8L
pins: 1 S, 2 G, 3 D

## SISA01DN
designator Q?  (value not drawn)
P-channel mosfet 30-Vds ID: 20A, can be drived from STM32 directly with 200 ohm resistors; ComponentLink1Description: purchase link; ComponentLink1URL: https://www.mouser.hk/ProductDetail/Vishay-Semiconductors/SISA01DN-T1-GE3?qs=chTDxNqvsymq6IcOj9ze4g==; ComponentLink2Description: datasheet; ComponentLink2URL: https://www.mouser.hk/datasheet/2/427/sisa01dn-1766634.pdf
footprint PowerPAK 1212-8
pins: 1 S, 2 G, 3 D

## SISA35DN
designator Q?  (value not drawn)
P-channel mosfet 30Vds Id: 16A, Vgs +/-20V
footprint PowerPAK 1212-8
pins: 1 S, 2 G, 3 D

## SiSA72ADN
designator Q?  (value not drawn)
N-Channel 40V (D-S) MOSFET 94A
footprint PowerPAK 1212-8
pins: 1 source, 2 gate, 3 drain

## SISA96DN-T1-GE3
designator Q?  (value not drawn)
N-Channel  30V (D-S) MOSFET 16A; Manufacturer: Vishay; Vgs(th): 1V; Rds(on): 0.0073; Vds(Max): 30V; Id(Max): 16A
footprint PowerPAK 1212-8 (PowerPak SO-8)
pins: 1 source, 2 gate, 3 drain

## SL0805200
designator F?
FUSE 6V 2A 0805PTC Resettable Fuses; ComponentLink1Description: purchase; ComponentLink1URL: https://lcsc.com/product-detail/Resettable-Fuses_TECHFUSE-SL0805200_C70158.html; Link: LCSC
footprint FUSE_0805 (Chip Resistor, Body 2.0x1.2mm, EIA 0805, IPC Medium Density)
pins: 1, 2

## SMBJ24A
designator D?
TVS Diode (Uni-directional) 24V; Manufacturer_Name: Taiwan Semiconductor; Datasheet Link: https://www.taiwansemi.com/products/datasheet/SMBJ%20SERIES_P1812.pdf; Height: 2.65mm; Manufacturer_Part_Number: SMBJ24A; Mouser Part Number: 821-SMBJ24A; Mouser Price/Stock: https://www.mouser.co.uk/ProductDetail/Taiwan-Semiconductor/SMBJ24A?qs=tHU%2FlV7kTySEg%2FyY8bcTDA%3D%3D; Arrow Part Number: SMBJ24A; Arrow Price/Stock: https://www.arrow.com/en/products/smbj24a/taiwan-semiconductor
footprint DIOM5436X265N
pins: 1 K, 2 A

## SMD1206B110TFT
designator F?
FUSE 8V 1.1A 1206 PTC Resettable Fuses
footprint FUSE_1206 (Fuse for 1206 package)
pins: 1, 2

## SMD_PAD_0303
designator J?, comment SMD pad
footprint SMD_PAD0303 (SMD pad size with 3mm x 3mm)
pins: 1 (power)

## SMD_PAD_0404
designator J?, comment SMD pad
footprint SMD_PAD0404 (SMD pad size with 4mm x 4mm)
pins: 1 (power)

## SMD_PAD_0505
designator J?, comment SMD pad
footprint SMD_PAD0505 (SMD pad size with 5mm x 5mm)
pins: 1 (power)

## SMU02N-05
designator U?
isolated 24V to 5V
footprint SMU02N (SMU02N series footprint)
pins: 1 VOUT+ (power), 2 VOUT- (power), 3 VIN+ (power), 4 VIN- (power)

## SRF0905-501Y
designator FB?
Ferrite Bead, 1-20MHz, 1A, 500uH; Manufacturer_Name: Bourns; Manufacturer_Part_Number: SRF0905-500Y; Datasheet Link: https://www.bourns.com/docs/Product-Datasheets/SRF0905.pdf; Height: 5.3mm; Mouser Part Number: 652-SRF0905-500Y; Mouser Price/Stock: https://www.mouser.co.uk/ProductDetail/Bourns/SRF0905-500Y?qs=stOsxiBwuZUXqOWA5HZgtw%3D%3D; Arrow Part Number: SRF0905-500Y; Arrow Price/Stock: https://www.arrow.com/en/products/srf0905-500y/bourns
footprint SRF0905500Y
pins: 1 VOUT+ (power), 2 VOUT+ (power), 3 VOUT+ (power), 4 VOUT+ (power)

## SRP6030CA-3R3M
designator L?, comment inductance: 3u3  (hidden comment: 3.3uH 8A sat.)
3.3uH inductor SMD. 8-12A Sat. Current; Current: 10A
footprint IND_7x7x3 (7mm x 7mm x 2.8mm footprint for inductor)
pins: 1 (power), 2 (power)

## SS24
designator D?
2.0A SURFACE MOUNT SCHOTTKY BARRIER RECTIFIER; Voltage: 40V; Current: 2A
footprint DO-214AC (JEDEC DO214 variation AC. SMA)
pins: A Anode, K Cathode

## TCC0402COG120J500AT
designator C?, comment 12pF 50V
CAP CER 0402 12pF 50V C0G 5%; Value: 12p; Price per 100 unit (LCSC): US$0.0108
simulation model CAP (Capacitor)
signal-integrity model Cap
footprint CAPC1005X55N (Chip Capacitor, Body 1.0x0.5mm, EIA 0402, IPC Medium Density)
pins: 1, 2

## TCC0603COG101J101CT
designator C?, comment 100p 100V
CAP CER 0603 100pF 100V C0G 5%; Price per 100 unit (LCSC): US$0.0047; Value: 100p
simulation model CAP (Capacitor)
signal-integrity model Cap
footprint CAPC1608X90N (Chip Capacitor, Body 1.6x0.8mm, EIA 0603, IPC Medium Density)
pins: 1, 2

## TCC0603X7R104K500CT
designator C?, comment 100n 50V
CAP CER 0603 100nF 50V X7R 10%; Price per 100 unit (LCSC): US$0.0033; Value: 100n
simulation model CAP (Capacitor)
signal-integrity model Cap
footprint CAPC1608X90N (Chip Capacitor, Body 1.6x0.8mm, EIA 0603, IPC Medium Density)
pins: 1, 2

## TJ200F04M3L
designator Q?  (value not drawn)
MOSFET Pb-F POWER MOSFET TRANSISTOR TO-220SM(W) PD=375W F=1MHZ; Vgs(max): -20V; I (conc): 200A; Rds(on) (Vgs = -8V, I = 100A) @25C: 2.6mR; Datasheet: https://www.mouser.hk/datasheet/2/408/TJ200F04M3L_datasheet_en_20180724-1840163.pdf; ComponentLink1Description: Datasheet; ComponentLink1URL: https://www.mouser.hk/datasheet/2/408/TJ200F04M3L_datasheet_en_20180724-1840163.pdf; ComponentLink2Description: Mouser; ComponentLink2URL: https://www.mouser.hk/ProductDetail/Toshiba/TJ200F04M3LLXHQ?qs=vmHwEFxEFR8ZUxdJ1v08fA%3D%3D
footprint TO220-SM
pins: 1 G, 3 S, 4 D

## TLP291
designator D?
Photocoupler; Manucfacterer: Toshiba; Vce: 80V; isolation voltage: 3750rms
footprint tlp291
pins: 1, 2, 3, 4

## TLP291-4
designator U?
Link: https://www.mouser.hk/ProductDetail/Toshiba/TLP291-4GB-TPE?qs=sGAEpiMZZMteimceiIVCB3qZhEwbmgeEa%252BDKcYuRaWM=; Parameter 1: *
footprint SOP16
footprint SO16
pins: 1, 2, 3, 4, 5, 6, 7, 8, 9, 10, 11, 12, 13, 14, 15, 16

## TP4056_module
designator U?
5V 1A lipo charging module
footprint TP4056_module
pins: 1 IN+, 2 IN-, 3 OUT-, 4 B-, 5 B+, 6 OUT+

## TPS62A01
designator U?
2.5-5.5V 1A buck converterm, 2.4MHz
footprint SOT563
pins: 1 GND (power), 2 SW, 3 VIN (power), 4 EN, 5 FB, 6 PG

## TPS54202
designator U?  (value not drawn)
4.5-28V input 2A output step down, EMI Friendly Synchronous Step Down Converter; Vin(max): 28V; Vin(min): 4.5V; Currrent: 2A
footprint SOT23-6
pins: 1 GND (power), 2 SW (power), 3 VIN (power), 4 FB (in), 5 EN (in), 6 BOOT

## ULN2004
designator U?, comment Darlington driver with freewheel diode  (value not drawn)
footprint DIP16
pins: 1 IN1, 2 IN2, 3 IN3, 4 IN4, 5 IN5, 6 IN6, 7 IN7, 8 GND (power), 9 COM (power), 10 OUT7 (power), 11 OUT6 (power), 12 OUT5 (power), 13 OUT4 (power), 14 OUT3 (power), 15 OUT2 (power), 16 OUT1 (power)

## UMK316BBJ106ML-T
designator C?, comment 10u 50V
CAP CER 1206 10uF 50V X5R 20%; Price per 100 unit (LCSC): US$0.0662; Value: 10u
simulation model CAP (Capacitor)
signal-integrity model Cap
footprint CAPC3216X175N (Chip Capacitor, Body 3.2x1.6mm, 1.75mm H, EIA 1206, IPC Medium Density)
pins: 1, 2

## URB4805YMD-20WR3
designator PS?
18 to 75V input to 5V @ 20W isolated power supply; Manufacturer_Name: RECOM Power; Manufacturer_Part_Number: REC15E-4812SZ; Datasheet Link: https://componentsearchengine.com/Datasheets/1/REC15E-4812SZ.pdf; Height: 10.5mm; Mouser Part Number: 919-REC15E-4812SZ; Mouser Price/Stock: https://www.mouser.co.uk/ProductDetail/RECOM-Power/REC15E-4812SZ?qs=lc2O%252BfHJPVauqRUd5dLSWA%3D%3D; Arrow Part Number: REC15E-4812SZ; Arrow Price/Stock: https://www.arrow.com/en/products/rec15e-4812sz/recom-power
footprint REC15E4812SZ
pins: 1 +VIN, 2 -VIN, 3 CTRL, 4 -VOUT, 5 TRIM, 6 +VOUT

## URB4812YMD-20WR3
designator PS?
18 to 75V input to 12V @ 20W isolated power supply; Manufacturer_Name: RECOM Power; Manufacturer_Part_Number: REC15E-4812SZ; Datasheet Link: https://componentsearchengine.com/Datasheets/1/REC15E-4812SZ.pdf; Height: 10.5mm; Mouser Part Number: 919-REC15E-4812SZ; Mouser Price/Stock: https://www.mouser.co.uk/ProductDetail/RECOM-Power/REC15E-4812SZ?qs=lc2O%252BfHJPVauqRUd5dLSWA%3D%3D; Arrow Part Number: REC15E-4812SZ; Arrow Price/Stock: https://www.arrow.com/en/products/rec15e-4812sz/recom-power
footprint REC15E4812SZ
pins: 1 +VIN, 2 -VIN, 3 CTRL, 4 -VOUT, 5 TRIM, 6 +VOUT

## UUR1H221MNL1GS
designator C?, comment 220uF 50V
CAP ELEC 10x10 220uF 50V 2k@85C; Value: 220u; Price per 100 unit (LCSC): US$0.2045
footprint CAP_ELEC_SIZE_G
pins: 1, 2
text: +

## UWT1V101MCL1GS
designator C?, comment 100uF 35V
CAP ELEC 6.3x7.3 100uF 35V 1k@105C; Value: 330u; Price per 100 unit (LCSC): US$0.0803
footprint CAP_ELEC_SIZE_E (Capacitor, polarized, aluminum can; 8.0x6.2mm DxH)
pins: 1, 2
text: +

## Valve
designator *
pins: 1, 2

## WST3401
designator Q?  (value not drawn)
P-channel mosfet 30-Vds ID: 5A, cheap AO3401 clone; ComponentLink1Description: purchase link; ComponentLink1URL: https://www.mouser.hk/ProductDetail/Vishay-Semiconductors/SISA01DN-T1-GE3?qs=chTDxNqvsymq6IcOj9ze4g==; ComponentLink2Description: datasheet; ComponentLink2URL: https://www.mouser.hk/datasheet/2/427/sisa01dn-1766634.pdf
footprint SOT23-3 (SOT23, 3 pin)
pins: 1 G, 2 S, 3 D

## XC6219B332MR
designator U?
fixed 3.3V LDO, Iq =  15uA
footprint SOT23-5
pins: 1 VIN (power), 2 VSS (power), 3 CE (power), 4 NC (power), 5 VOUT (power)

## XT30_female
designator H?  (value not drawn)
XT30_female, for output port
footprint XT30_FEMALE
footprint XT30_FEMALE_RA
pins: 1 - (power), 2 + (power)

## XT30_male
designator H?  (value not drawn)
XT30_male, input port
footprint XT30_MALE
footprint XT30_MALE_RA
pins: 1 - (power), 2 + (power)

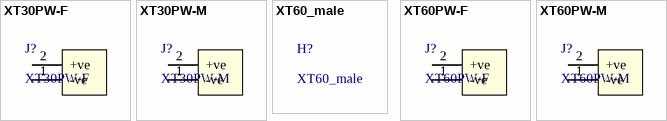
[diagram p5: symbols XT30PW-F to XT60PW-M]

## XT30PW-F
designator J?
XT30 female right angle PCB connector
footprint XT30PW-F (XT30 RA male header)
pins: 1 -ve (power), 2 +ve (power)

## XT30PW-M
designator J?
XT30 male right angle PCB connector
footprint XT30PW-M (XT30 RA male header)
pins: 1 -ve (power), 2 +ve (power)

## XT60_male
designator H?
XT60_male, input port

## XT60PW-F
designator J?
XT60 female right angle PCB connector
footprint XT60PW-F (XT60 RA Female PCB header)
pins: 1 -ve (power), 2 +ve (power)

## XT60PW-M
designator J?
XT60 male right angle PCB connector
footprint XT60PW-M (XT60 RA Male PCB header)
pins: 1 -ve (power), 2 +ve (power)